# Altium footprint library ZH1.5.PcbLib: 63 footprints (part 2 of 4)
Each footprint in its own frame and in the unit in brackets; x right, y up, seen from the top. Pads: shape width x height; smd on the part's side, far side on the other; paste and mask are expansions set on the pad; w line width, h text height; cw(c..) or ccw(c..) is an arc to the next point about the centre after c.
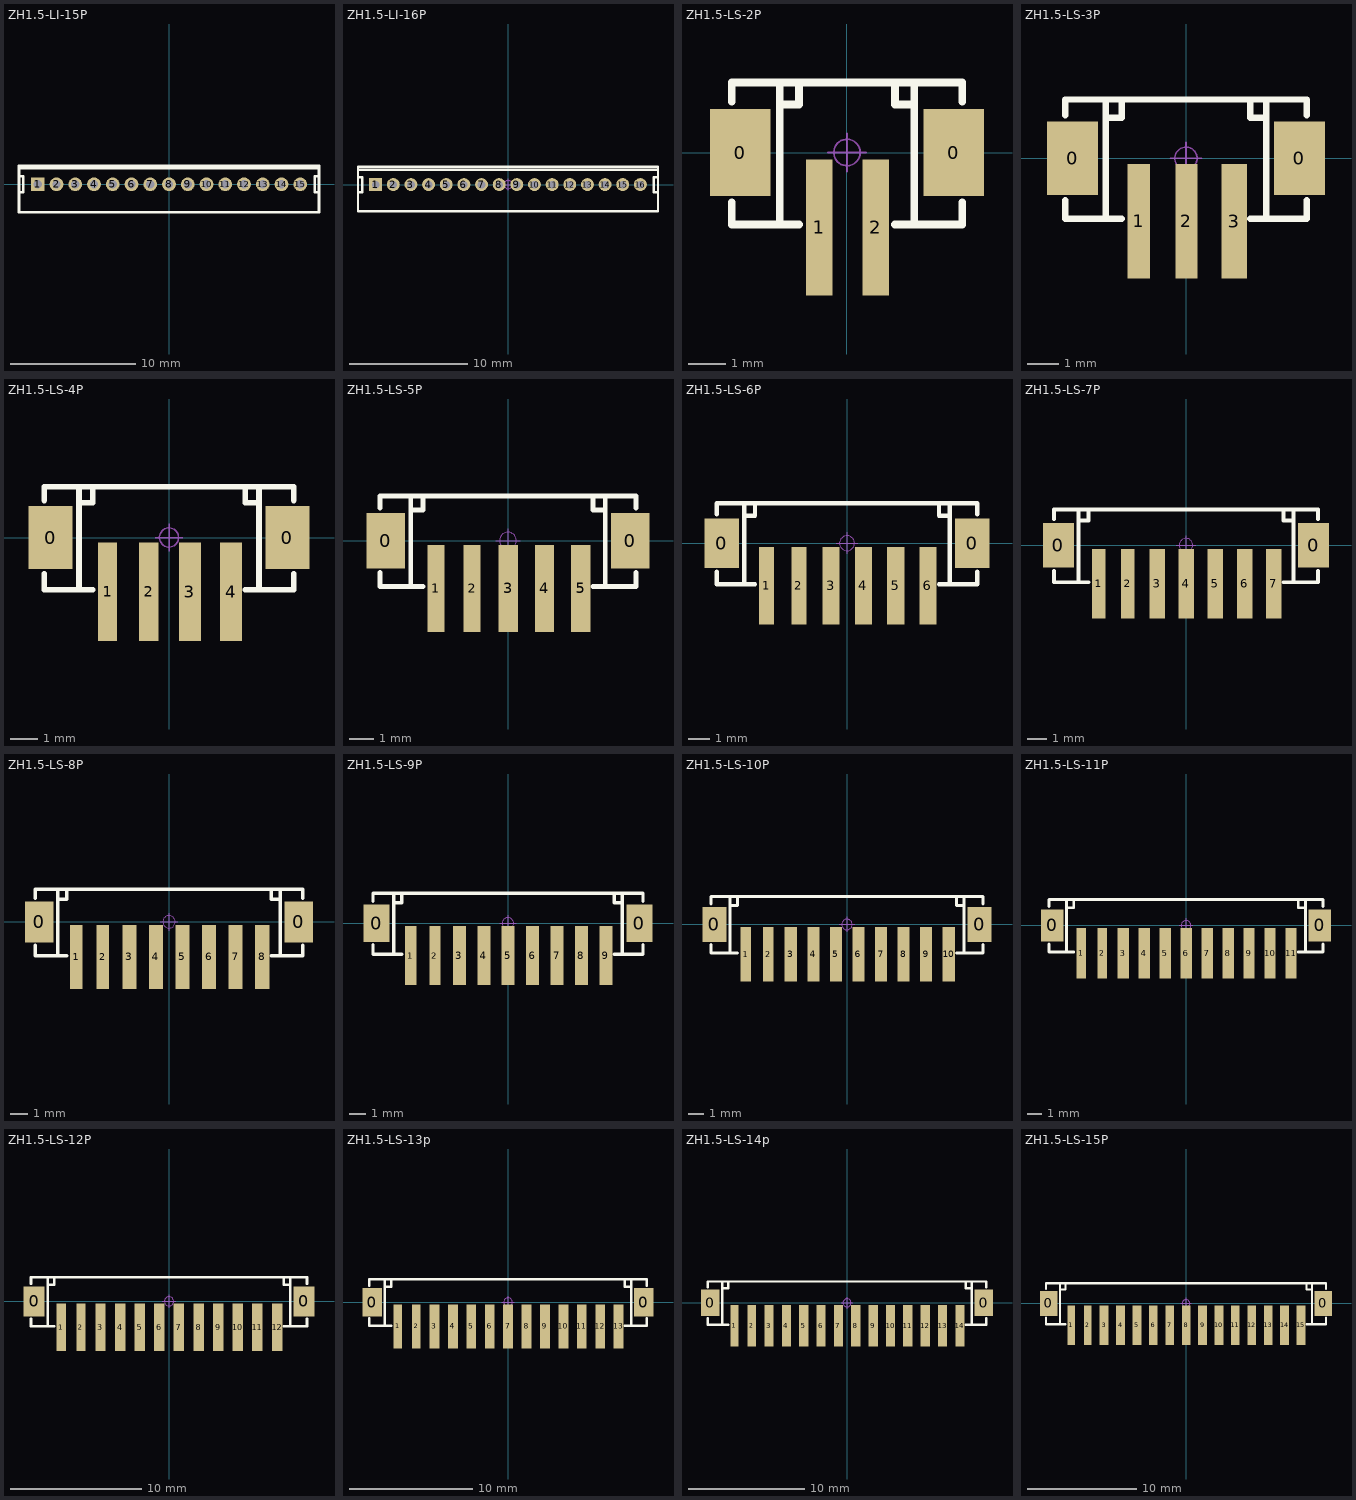
[diagram p1: the footprints below, top view; thin cyan lines are the x and y axes]

## ZH1.5-LI-15P [mm] "长：24.0，宽：3.65，高：4.55"
pads (15):
  rect 1.1x1.1 hole 0.65: 1(-10.5,0)
  round 1.1 hole 0.65: 2(-9,0) 3(-7.5,0) 4(-6,0) 5(-4.5,0) 6(-3,0) 7(-1.5,0) 8(0,0) 9(1.5,0) 10(3,0) 11(4.5,0) 12(6,0) 13(7.5,0) 14(9,0) 15(10.5,0)
Top Overlay:
  lines w0.203: -12,-0.635 -11.655,-0.635 -11.655,0.635 -12,0.635 ; -12,1.27 12,1.27 ; 12,-0.635 11.655,-0.635 11.655,0.635 12,0.635 ; -12,-2.25 -12,1.5 12,1.5 12,-2.25 -12,-2.25
Mechanical 15:
  circle w0.05: c0,0 r0.35
  lines w0.05: -0.5,0 0.5,0 ; 0,-0.5 0,0.5
3D body "ZH1.5-LI-15P.STEP": height 4.6, standoff -2.55, extent -12,-2.15 12,1.5

## ZH1.5-LI-16P [mm] "长：25.5，宽：3.65，高：4.55"
pads (16):
  rect 1.1x1.1 hole 0.65: 1(-11.25,0)
  round 1.1 hole 0.65: 2(-9.75,0) 3(-8.25,0) 4(-6.75,0) 5(-5.25,0) 6(-3.75,0) 7(-2.25,0) 8(-0.75,0) 9(0.75,0) 10(2.25,0) 11(3.75,0) 12(5.25,0) 13(6.75,0) 14(8.25,0) 15(9.75,0) 16(11.25,0)
Top Overlay:
  lines w0.203: -12.75,-0.635 -12.405,-0.635 -12.405,0.635 -12.75,0.635 ; -12.75,1.27 12.75,1.27 ; 12.75,-0.635 12.405,-0.635 12.405,0.635 12.75,0.635 ; -12.75,-2.25 -12.75,1.5 12.75,1.5 12.75,-2.25 -12.75,-2.25
Mechanical 15:
  circle w0.05: c0,0 r0.35
  lines w0.05: -0.5,0 0.5,0 ; 0,-0.5 0,0.5
3D body "ZH1.5-LI-16P.STEP": height 4.6, standoff -2.55, extent -12.75,-2.15 12.75,1.5

## ZH1.5-LS-2P [mm] "长：6.0mm，宽：3.7mm，高：5.0mm"
pads (4):
  rect 1.6x2.3 smd: 0(-2.816,0) 0(2.82,0)
  rect 0.7x3.6 smd: 1(-0.736,-1.981) 2(0.764,-1.981)
Top Overlay:
  lines w0.203: -3.048,-1.318 -3.048,-1.905 -1.27,-1.905 ; -3.048,1.349 -3.048,1.85 3.052,1.85 3.052,1.349 3.048,1.349 ; -1.778,-1.905 -1.778,1.85 ; -1.778,1.27 -1.27,1.27 -1.27,1.85 ; 1.27,-1.905 3.052,-1.905 3.052,-1.318 3.048,-1.318 ; 1.27,1.85 1.27,1.27 1.651,1.27 ; 1.782,-1.905 1.782,1.85
Mechanical 15:
  circle w0.05: c0.002,0 r0.35
  lines w0.05: -0.498,0 0.502,0 ; 0.002,-0.5 0.002,0.5
3D body "ZH1.5-LS-2P.STEP": height 5.05, standoff 0, extent -3.048,-3.35 3.052,1.85

## ZH1.5-LS-3P [mm] "长：7.5mm，宽：3.7mm，高：5.0mm"
pads (5):
  rect 1.6x2.3 smd: 0(-3.568,0) 0(3.568,0)
  rect 0.7x3.6 smd: 1(-1.488,-1.981) 2(0.012,-1.981)
  rect 0.8x3.6 smd: 3(1.512,-1.981)
Top Overlay:
  lines w0.203: -3.8,-1.318 -3.8,-1.905 -2.022,-1.905 ; -3.8,1.349 -3.8,1.85 3.8,1.85 3.8,1.349 ; -2.53,-1.905 -2.53,1.85 ; -2.53,1.27 -2.022,1.27 -2.022,1.85 ; 2.022,-1.905 3.8,-1.905 3.8,-1.318 ; 2.022,1.85 2.022,1.27 2.53,1.27 ; 2.53,-1.905 2.53,1.85
Mechanical 15:
  circle w0.05: c0,0 r0.35
  lines w0.05: -0.5,0 0.5,0 ; 0,-0.5 0,0.5
3D body "ZH1.5-LS-3P.STEP": height 5.05, standoff 0, extent -3.8,-3.35 3.8,1.85

## ZH1.5-LS-4P [mm] "长：9.0mm，宽：3.7mm，高：5.0mm"
pads (6):
  rect 1.6x2.3 smd: 0(-4.318,0) 0(4.318,0)
  rect 0.7x3.6 smd: 1(-2.238,-1.981) 2(-0.738,-1.981)
  rect 0.8x3.6 smd: 3(0.762,-1.981) 4(2.262,-1.981)
Top Overlay:
  lines w0.203: -4.55,-1.318 -4.55,-1.905 -2.772,-1.905 ; -4.55,1.349 -4.55,1.85 ; -3.28,-1.905 -3.28,1.85 ; -3.28,1.27 -2.772,1.27 -2.772,1.85 ; 2.772,-1.905 4.55,-1.905 4.55,-1.318 ; 2.772,1.85 2.772,1.27 3.28,1.27 ; 3.28,-1.905 3.28,1.85 ; 4.55,1.349 4.55,1.85 -4.55,1.85 ; -4.55,1.85 -4.55,1.85
Mechanical 15:
  circle w0.05: c0,0 r0.35
  lines w0.05: -0.5,0 0.5,0 ; 0,-0.5 0,0.5
3D body "ZH1.5-LS-4P.STEP": height 5.05, standoff 0, extent -4.55,-3.35 4.55,1.85

## ZH1.5-LS-5P [mm] "长：10.5mm，宽：3.7mm，高：5.0mm"
pads (7):
  rect 1.6x2.3 smd: 0(-5.068,0) 0(5.068,0)
  rect 0.7x3.6 smd: 1(-2.988,-1.981) 2(-1.488,-1.981)
  rect 0.8x3.6 smd: 3(0.012,-1.981) 4(1.512,-1.981) 5(3.012,-1.981)
Top Overlay:
  lines w0.203: -5.3,-1.318 -5.3,-1.905 -3.522,-1.905 ; -5.3,1.349 -5.3,1.85 5.3,1.85 5.3,1.349 ; -4.03,-1.905 -4.03,1.85 ; -4.03,1.27 -3.522,1.27 -3.522,1.85 ; 3.522,-1.905 5.3,-1.905 5.3,-1.318 ; 3.522,1.85 3.522,1.27 4.03,1.27 ; 4.03,-1.905 4.03,1.85
Mechanical 15:
  circle w0.05: c0,0 r0.35
  lines w0.05: -0.5,0 0.5,0 ; 0,-0.5 0,0.5
3D body "ZH1.5-LS-5P.STEP": height 5.05, standoff 0, extent -5.3,-3.35 5.3,1.85

## ZH1.5-LS-6P [mm] "长：12.0mm，宽：3.7mm，高：5.0mm"
pads (8):
  rect 1.6x2.3 smd: 0(-5.83,0) 0(5.806,0)
  rect 0.7x3.6 smd: 1(-3.75,-1.981) 2(-2.25,-1.981)
  rect 0.8x3.6 smd: 3(-0.75,-1.981) 4(0.75,-1.981) 5(2.25,-1.981) 6(3.75,-1.981)
Top Overlay:
  lines w0.203: -6.062,-1.318 -6.062,-1.905 -4.284,-1.905 ; -6.062,1.349 -6.062,1.85 6.038,1.85 6.038,1.349 ; -4.792,-1.905 -4.792,1.85 ; -4.792,1.27 -4.284,1.27 -4.284,1.85 ; 4.26,-1.905 6.038,-1.905 6.038,-1.318 ; 4.26,1.85 4.26,1.27 4.768,1.27 ; 4.768,-1.905 4.768,1.85
Mechanical 15:
  circle w0.05: c-0.012,0 r0.35
  lines w0.05: -0.512,0 0.488,0 ; -0.012,-0.5 -0.012,0.5
3D body "ZH1.5-LS-6P.STEP": height 5.05, standoff 0, extent -6.062,-3.35 6.038,1.85

## ZH1.5-LS-7P [mm] "长：13.5mm，宽：3.7mm，高：5.0mm"
pads (9):
  rect 1.6x2.3 smd: 0(-6.568,0) 0(6.568,0)
  rect 0.7x3.6 smd: 1(-4.488,-1.981) 2(-2.988,-1.981)
  rect 0.8x3.6 smd: 3(-1.488,-1.981) 4(0.012,-1.981) 5(1.512,-1.981) 6(3.012,-1.981) 7(4.512,-1.981)
Top Overlay:
  lines w0.203: -6.8,-1.318 -6.8,-1.905 -5.022,-1.905 ; -6.8,1.349 -6.8,1.85 6.8,1.85 6.8,1.349 ; -5.53,-1.905 -5.53,1.85 ; -5.53,1.27 -5.022,1.27 -5.022,1.85 ; 5.022,-1.905 6.8,-1.905 6.8,-1.318 ; 5.022,1.85 5.022,1.27 5.53,1.27 ; 5.53,-1.905 5.53,1.85
Mechanical 15:
  circle w0.05: c0,0 r0.35
  lines w0.05: -0.5,0 0.5,0 ; 0,-0.5 0,0.5
3D body "ZH1.5-LS-7P.STEP": height 5.05, standoff 0, extent -6.8,-3.35 6.8,1.85

## ZH1.5-LS-8P [mm] "长：15.0mm，宽：3.7mm，高：5.0mm"
pads (10):
  rect 1.6x2.3 smd: 0(-7.318,0) 0(7.318,0)
  rect 0.7x3.6 smd: 1(-5.238,-1.981) 2(-3.738,-1.981)
  rect 0.8x3.6 smd: 3(-2.238,-1.981) 4(-0.738,-1.981) 5(0.762,-1.981) 6(2.262,-1.981) 7(3.762,-1.981) 8(5.262,-1.981)
Top Overlay:
  lines w0.203: -7.55,-1.318 -7.55,-1.905 -5.772,-1.905 ; -7.55,1.349 -7.55,1.85 7.55,1.85 7.55,1.349 ; -6.28,-1.905 -6.28,1.85 ; -6.28,1.27 -5.772,1.27 -5.772,1.85 ; 5.772,-1.905 7.55,-1.905 7.55,-1.318 ; 5.772,1.85 5.772,1.27 6.28,1.27 ; 6.28,-1.905 6.28,1.85
Mechanical 15:
  circle w0.05: c0,0 r0.35
  lines w0.05: -0.5,0 0.5,0 ; 0,-0.5 0,0.5
3D body "ZH1.5-LS-8P.STEP": height 5.05, standoff 0, extent -7.55,-3.35 7.55,1.85

## ZH1.5-LS-9P [mm] "长：16.5mm，宽：3.7mm，高：5.0mm"
pads (11):
  rect 1.6x2.3 smd: 0(-8.068,0) 0(8.068,0)
  rect 0.7x3.6 smd: 1(-5.988,-1.981) 2(-4.488,-1.981)
  rect 0.8x3.6 smd: 3(-2.988,-1.981) 4(-1.488,-1.981) 5(0.012,-1.981) 6(1.512,-1.981) 7(3.012,-1.981) 8(4.512,-1.981) 9(6.012,-1.981)
Top Overlay:
  lines w0.203: -8.3,-1.318 -8.3,-1.905 -6.522,-1.905 ; -8.3,1.349 -8.3,1.85 8.3,1.85 8.3,1.349 ; -7.03,-1.905 -7.03,1.85 ; -7.03,1.27 -6.522,1.27 -6.522,1.85 ; 6.522,-1.905 8.3,-1.905 8.3,-1.318 ; 6.522,1.85 6.522,1.27 7.03,1.27 ; 7.03,-1.905 7.03,1.85
Mechanical 15:
  circle w0.05: c0,0 r0.35
  lines w0.05: -0.5,0 0.5,0 ; 0,-0.5 0,0.5
3D body "ZH1.5-LS-9P.STEP": height 5.05, standoff 0, extent -8.3,-3.35 8.3,1.85

## ZH1.5-LS-10P [mm] "长：18.0mm，宽：3.7mm，高：5.0mm"
pads (12):
  rect 1.6x2.3 smd: 0(-8.83,0) 0(8.806,0)
  rect 0.7x3.6 smd: 1(-6.75,-1.981) 2(-5.25,-1.981)
  rect 0.8x3.6 smd: 3(-3.75,-1.981) 4(-2.25,-1.981) 5(-0.75,-1.981) 6(0.75,-1.981) 7(2.25,-1.981) 8(3.75,-1.981) 9(5.25,-1.981) 10(6.75,-1.981)
Top Overlay:
  lines w0.203: -9.062,-1.318 -9.062,-1.905 -7.284,-1.905 ; -9.062,1.349 -9.062,1.85 9.038,1.85 9.038,1.349 ; -7.792,-1.905 -7.792,1.85 ; -7.792,1.27 -7.284,1.27 -7.284,1.85 ; 7.26,-1.905 9.038,-1.905 9.038,-1.318 ; 7.26,1.85 7.26,1.27 7.768,1.27 ; 7.768,-1.905 7.768,1.85
Mechanical 15:
  circle w0.05: c-0.012,0 r0.35
  lines w0.05: -0.512,0 0.488,0 ; -0.012,-0.5 -0.012,0.5
3D body "ZH1.5-LS-10P.STEP": height 5.05, standoff 0, extent -9.062,-3.35 9.038,1.85

## ZH1.5-LS-11P [mm] "长：19.5mm，宽：3.7mm，高：5.0mm"
pads (13):
  rect 1.6x2.3 smd: 0(-9.568,0) 0(9.568,0)
  rect 0.7x3.6 smd: 1(-7.488,-1.981) 2(-5.988,-1.981)
  rect 0.8x3.6 smd: 3(-4.488,-1.981) 4(-2.988,-1.981) 5(-1.488,-1.981) 6(0.012,-1.981) 7(1.512,-1.981) 8(3.012,-1.981) 9(4.512,-1.981) 10(6.012,-1.981) 11(7.512,-1.981)
Top Overlay:
  lines w0.203: -9.8,-1.318 -9.8,-1.905 -8.022,-1.905 ; -9.8,1.349 -9.8,1.85 9.8,1.85 9.8,1.349 ; -8.53,-1.905 -8.53,1.85 ; -8.53,1.27 -8.022,1.27 -8.022,1.85 ; 8.022,-1.905 9.8,-1.905 9.8,-1.318 ; 8.022,1.85 8.022,1.27 8.53,1.27 ; 8.53,-1.905 8.53,1.85
Mechanical 15:
  circle w0.05: c0,0 r0.35
  lines w0.05: -0.5,0 0.5,0 ; 0,-0.5 0,0.5
3D body "ZH1.5-LS-11P.STEP": height 5.05, standoff 0, extent -9.8,-3.35 9.8,1.85

## ZH1.5-LS-12P [mm] "长：21.0mm，宽：3.7mm，高：5.0mm"
pads (14):
  rect 1.6x2.3 smd: 0(-10.318,0) 0(10.318,0)
  rect 0.7x3.6 smd: 1(-8.238,-1.981) 2(-6.738,-1.981)
  rect 0.8x3.6 smd: 3(-5.238,-1.981) 4(-3.738,-1.981) 5(-2.238,-1.981) 6(-0.738,-1.981) 7(0.762,-1.981) 8(2.262,-1.981) 9(3.762,-1.981) 10(5.262,-1.981) 11(6.762,-1.981) 12(8.262,-1.981)
Top Overlay:
  lines w0.203: -10.55,-1.318 -10.55,-1.905 -8.772,-1.905 ; -10.55,1.349 -10.55,1.85 10.55,1.85 10.55,1.349 ; -9.28,-1.905 -9.28,1.85 ; -9.28,1.27 -8.772,1.27 -8.772,1.85 ; 8.772,-1.905 10.55,-1.905 10.55,-1.318 ; 8.772,1.85 8.772,1.27 9.28,1.27 ; 9.28,-1.905 9.28,1.85
Mechanical 15:
  circle w0.05: c0,0 r0.35
  lines w0.05: -0.5,0 0.5,0 ; 0,-0.5 0,0.5
3D body "ZH1.5-LS-12P.STEP": height 5.05, standoff 0, extent -10.55,-3.35 10.55,1.85

## ZH1.5-LS-13p [mm] "长：23.0mm，宽：3.7mm，高：5.0mm"
pads (15):
  rect 1.6x2.3 smd: 0(-11.068,0) 0(11.068,0)
  rect 0.7x3.6 smd: 1(-8.988,-1.981) 2(-7.488,-1.981)
  rect 0.8x3.6 smd: 3(-5.988,-1.981) 4(-4.488,-1.981) 5(-2.988,-1.981) 6(-1.488,-1.981) 7(0.012,-1.981) 8(1.512,-1.981) 9(3.012,-1.981) 10(4.512,-1.981) 11(6.012,-1.981) 12(7.512,-1.981) 13(9.012,-1.981)
Top Overlay:
  lines w0.203: -11.3,-1.318 -11.3,-1.905 -9.522,-1.905 ; -11.3,1.349 -11.3,1.85 11.3,1.85 11.3,1.349 ; -10.03,-1.905 -10.03,1.85 ; -10.03,1.27 -9.522,1.27 -9.522,1.85 ; 9.522,-1.905 11.3,-1.905 11.3,-1.318 ; 9.522,1.85 9.522,1.27 10.03,1.27 ; 10.03,-1.905 10.03,1.85
Mechanical 15:
  circle w0.05: c0,0 r0.35
  lines w0.05: -0.5,0 0.5,0 ; 0,-0.5 0,0.5
3D body "ZH1.5-LS-13P.STEP": height 5.05, standoff 0, extent -11.3,-3.35 11.3,1.85

## ZH1.5-LS-14p [mm] "长：24.5mm，宽：3.7mm，高：5.0mm"
pads (16):
  rect 1.6x2.3 smd: 0(-11.818,0) 0(11.818,0)
  rect 0.7x3.6 smd: 1(-9.738,-1.981) 2(-8.238,-1.981)
  rect 0.8x3.6 smd: 3(-6.738,-1.981) 4(-5.238,-1.981) 5(-3.738,-1.981) 6(-2.238,-1.981) 7(-0.738,-1.981) 8(0.762,-1.981) 9(2.262,-1.981) 10(3.762,-1.981) 11(5.262,-1.981) 12(6.762,-1.981) 13(8.262,-1.981) 14(9.762,-1.981)
Top Overlay:
  lines w0.203: -12.05,-1.318 -12.05,-1.905 -10.272,-1.905 ; -12.05,1.349 -12.05,1.85 12.05,1.85 12.05,1.349 ; -10.78,-1.905 -10.78,1.85 ; -10.78,1.27 -10.272,1.27 -10.272,1.85 ; 10.272,-1.905 12.05,-1.905 12.05,-1.318 ; 10.272,1.85 10.272,1.27 10.78,1.27 ; 10.78,-1.905 10.78,1.85
Mechanical 15:
  circle w0.05: c0,0 r0.35
  lines w0.05: -0.5,0 0.5,0 ; 0,-0.5 0,0.5
3D body "ZH1.5-LS-14P.STEP": height 5.05, standoff 0, extent -12.05,-3.35 12.05,1.85

## ZH1.5-LS-15P [mm] "长：26.0mm，宽：3.7mm，高：5.0mm"
pads (17):
  rect 1.6x2.3 smd: 0(-12.568,0) 0(12.568,0)
  rect 0.7x3.6 smd: 1(-10.488,-1.981) 2(-8.988,-1.981)
  rect 0.8x3.6 smd: 3(-7.488,-1.981) 4(-5.988,-1.981) 5(-4.488,-1.981) 6(-2.988,-1.981) 7(-1.488,-1.981) 8(0.012,-1.981) 9(1.512,-1.981) 10(3.012,-1.981) 11(4.512,-1.981) 12(6.012,-1.981) 13(7.512,-1.981) 14(9.012,-1.981) 15(10.512,-1.981)
Top Overlay:
  lines w0.203: -12.8,-1.318 -12.8,-1.905 -11.022,-1.905 ; -12.8,1.349 -12.8,1.85 12.8,1.85 12.8,1.349 ; -11.53,-1.905 -11.53,1.85 ; -11.53,1.27 -11.022,1.27 -11.022,1.85 ; 11.022,-1.905 12.8,-1.905 12.8,-1.318 ; 11.022,1.85 11.022,1.27 11.53,1.27 ; 11.53,-1.905 11.53,1.85
Mechanical 15:
  circle w0.05: c0,0 r0.35
  lines w0.05: -0.5,0 0.5,0 ; 0,-0.5 0,0.5
3D body "ZH1.5-LS-15P.STEP": height 5.05, standoff 0, extent -12.8,-3.35 12.8,1.85